# Altium schematic symbol library Logic.SchLib: 1 symbol
Pins are listed as number, name and electrical type; pins without a type are passive.

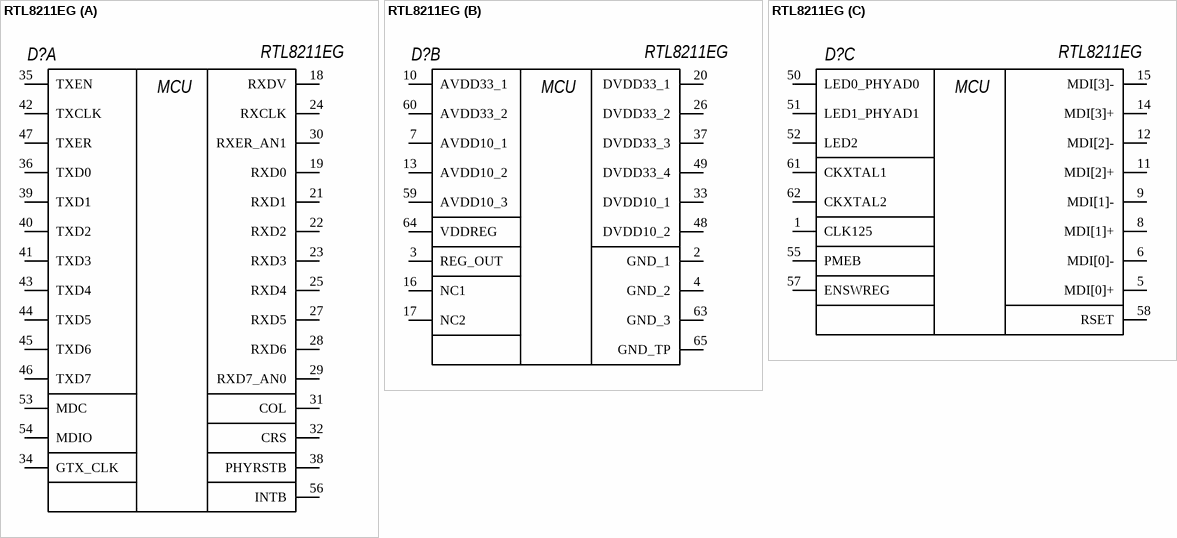
[diagram p0: symbol RTL8211EG]

## RTL8211EG
designator D?
footprint QFN50P900X900X100_HS-65N (QFN, 64-Leads, Body 9,00x9,00mm, Pitch 0,50mm, Thermal Pad 3,80x3,80mm, IPC Medium Density)
part A pins: 18 RXDV, 19 RXD0, 21 RXD1, 22 RXD2, 23 RXD3, 24 RXCLK, 25 RXD4, 27 RXD5, 28 RXD6, 29 RXD7_AN0, 30 RXER_AN1, 31 COL, 32 CRS, 34 GTX_CLK, 35 TXEN, 36 TXD0, 38 PHYRSTB, 39 TXD1, 40 TXD2, 41 TXD3, 42 TXCLK, 43 TXD4, 44 TXD5, 45 TXD6, 46 TXD7, 47 TXER, 53 MDC, 54 MDIO, 56 INTB
part B pins: 2 GND_1, 3 REG_OUT, 4 GND_2, 7 AVDD10_1, 10 AVDD33_1, 13 AVDD10_2, 16 NC1, 17 NC2, 20 DVDD33_1, 26 DVDD33_2, 33 DVDD10_1, 37 DVDD33_3, 48 DVDD10_2, 49 DVDD33_4, 59 AVDD10_3, 60 AVDD33_2, 63 GND_3, 64 VDDREG, 65 GND_TP
part C pins: 1 CLK125, 5 MDI[0]+, 6 MDI[0]-, 8 MDI[1]+, 9 MDI[1]-, 11 MDI[2]+, 12 MDI[2]-, 14 MDI[3]+, 15 MDI[3]-, 50 LED0_PHYAD0, 51 LED1_PHYAD1, 52 LED2, 55 PMEB, 57 ENSWREG, 58 RSET, 61 CKXTAL1, 62 CKXTAL2
part A text: MCU
part B text: MCU
part C text: MCU